# EAGLE library part LCDMODULE* (library mita-akiba)
LCD module KD162 16chars 2 lines, bought at Suzusyo @1000yen, LM162AT1 16chars 2 lines, bought at Akizuki @1100yen. SC1602BS 16chars 2 lines, bought at Akizuki @700yen. Note that VCC/VSS are flipped between LM162 and SC1602.
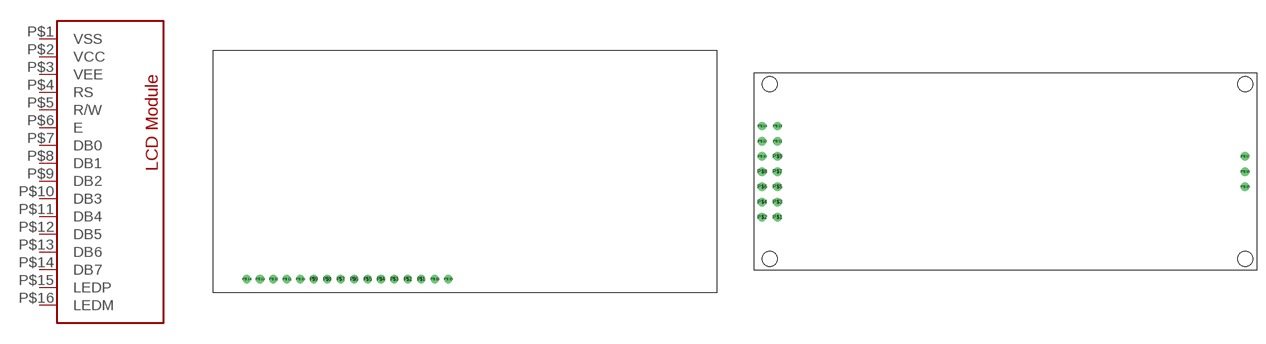
[diagram p0: symbol with the pads of KD162-626LPSG-LG; footprints KD162-626LPSG-LG, LM162]

Designator prefix -

## LCDMODULEKD162  [KD162-626LPSG-LG]
P$1  VSS  pwr
P$2  VCC  pwr
P$3  VEE  pwr
P$4  RS  in
P$5  R/W  in
P$6  E  in
P$7  DB0
P$8  DB1
P$9  DB2
P$10  DB3
P$11  DB4
P$12  DB5
P$13  DB6
P$14  DB7
P$15  LEDP  pwr
P$16  LEDM  pwr

## LCDMODULELM162  [LM162]
P$1  VSS  pwr
P$2  VCC  pwr
P$3  VEE  pwr
P$4  RS  in
P$5  R/W  in
P$6  E  in
P$7  DB0
P$8  DB1
P$9  DB2
P$10  DB3
P$11  DB4
P$12  DB5
P$13  DB6
P$14  DB7
P$15  LEDM  pwr
P$17  LEDP  pwr

## LCDMODULESC1602  [SC1602]
P$1  VCC  pwr
P$2  VSS  pwr
P$3  VEE  pwr
P$4  RS  in
P$5  R/W  in
P$6  E  in
P$7  DB0
P$8  DB1
P$9  DB2
P$10  DB3
P$11  DB4
P$12  DB5
P$13  DB6
P$14  DB7
P$15  LEDM  pwr
P$17  LEDP  pwr

## LCDMODULESC1602NH  [SC1602NH]
Pads as for SC1602

## Footprint KD162-626LPSG-LG (pad centres in mm)
Crystalfontz Tech. 16x2line LCD Module
drill 1.016: P$1 0,0; P$2 -2.54,0; P$3 -5.08,0; P$4 -7.62,0; P$5 -10.16,0; P$6 -12.7,0; P$7 -15.24,0; P$8 -17.78,0; P$9 -20.32,0; P$10 -22.86,0; P$11 -25.4,0; P$12 -27.94,0; P$13 -30.48,0; P$14 -33.02,0; P$15 5.08,0; P$16 2.54,0

## Footprint LM162 (pad centres in mm)
drill 0.9: P$1 0,0; P$2 -2.54,0; P$3 0,2.54; P$4 -2.54,2.54; P$5 0,5.08; P$6 -2.54,5.08; P$7 0,7.62; P$8 -2.54,7.62; P$9 0,10.16; P$10 -2.54,10.16; P$11 0,12.7; P$12 -2.54,12.7; P$13 0,15.24; P$14 -2.54,15.24; P$15 78.105,5.08; P$16 78.105,7.62; P$17 78.105,10.16
hole 2.5 at -1.27,-6.985
hole 2.5 at -1.27,22.225
hole 2.5 at 78.105,22.225
hole 2.5 at 78.105,-6.985

## Footprint SC1602 (pad centres in mm)
drill 0.9: P$1 0,0; P$2 -2.54,0; P$3 0,2.54; P$4 -2.54,2.54; P$5 0,5.08; P$6 -2.54,5.08; P$7 0,7.62; P$8 -2.54,7.62; P$9 0,10.16; P$10 -2.54,10.16; P$11 0,12.7; P$12 -2.54,12.7; P$13 0,15.24; P$14 -2.54,15.24; P$15 78.105,5.08; P$16 78.105,7.62; P$17 78.105,10.16
hole 2.5 at -1.27,-6.985
hole 2.5 at -1.27,22.225
hole 2.5 at 78.105,22.225
hole 2.5 at 78.105,-6.985

## Footprint SC1602NH (pad centres in mm)
drill 0.9: P$1 0,0; P$2 -2.54,0; P$3 0,2.54; P$4 -2.54,2.54; P$5 0,5.08; P$6 -2.54,5.08; P$7 0,7.62; P$8 -2.54,7.62; P$9 0,10.16; P$10 -2.54,10.16; P$11 0,12.7; P$12 -2.54,12.7; P$13 0,15.24; P$14 -2.54,15.24; P$15 78.105,5.08; P$16 78.105,7.62; P$17 78.105,10.16